# Altium schematic symbol library MBRS320T3.SchLib: 1 symbol
Pins are listed as number, name and electrical type; pins without a type are passive.

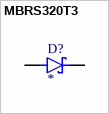
[diagram p0: symbol MBRS320T3]

## MBRS320T3
designator D?
Diode Schottky 20 V 4A Surface Mount SMC; MP: MBRS320T3; MF: ON Semiconductor; Price: None; Package: SMC-2 ON Semiconductor; Value: *; Check_prices: https://www.snapeda.com/parts/MBRS320T3/Onsemi/view-part/?ref=eda; SnapEDA_Link: https://www.snapeda.com/parts/MBRS320T3/Onsemi/view-part/?ref=snap; Availability: In Stock; Purchase-URL: https://pricing.snapeda.com/search/part/MBRS320T3/?ref=eda
footprint DIOM7959X261N
pins: A, C K